# Altium footprint library RESC_1206_M3216.PcbLib: 1 footprints
Each footprint in its own frame and in the unit in brackets; x right, y up, seen from the top. Pads: shape width x height; smd on the part's side, far side on the other; paste and mask are expansions set on the pad; w line width, h text height; cw(c..) or ccw(c..) is an arc to the next point about the centre after c.
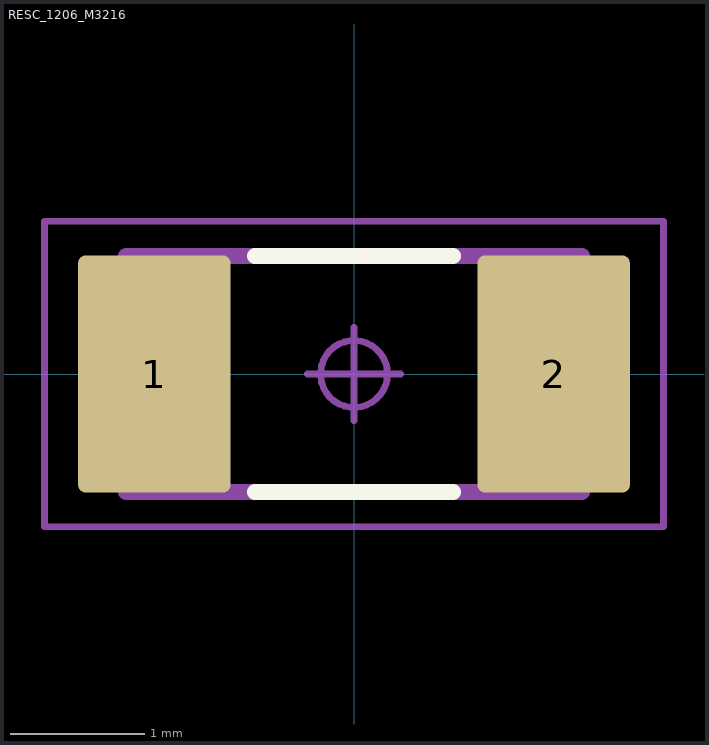
[diagram p0: the footprint, top view; thin cyan lines are the x and y axes]

## RESC_1206_M3216 [mm] "Resistor, Chip; 3.20 mm L X 1.60 mm W X 0.70 mm H body"
pads (2):
  rrect10% 1.14x1.77 smd: 1(-1.49,0) 2(1.49,0)
Top Overlay:
  lines w0.12: -0.74,-0.88 0.74,-0.88 ; -0.74,0.88 0.74,0.88
Mechanical 11:
  lines w0.12: -1.7,-0.88 -1.7,0.88 1.7,0.88 1.7,-0.88 -1.7,-0.88
  text ".Designator" at -1.821,-0.223 h1
Mechanical 15:
  circle w0.05: c0,0 r0.25
  lines w0.05: -0.35,0 0.35,0 ; 0,-0.35 0,0.35 ; -2.31,-1.14 -2.31,1.14 2.31,1.14 2.31,-1.14 -2.31,-1.14
3D body "RESC_1206_M3216.STEP": height 0.7, standoff 0, extent -1.7,-0.875 1.7,0.875